# EAGLE library part AMC1304L05DW (library kicker)
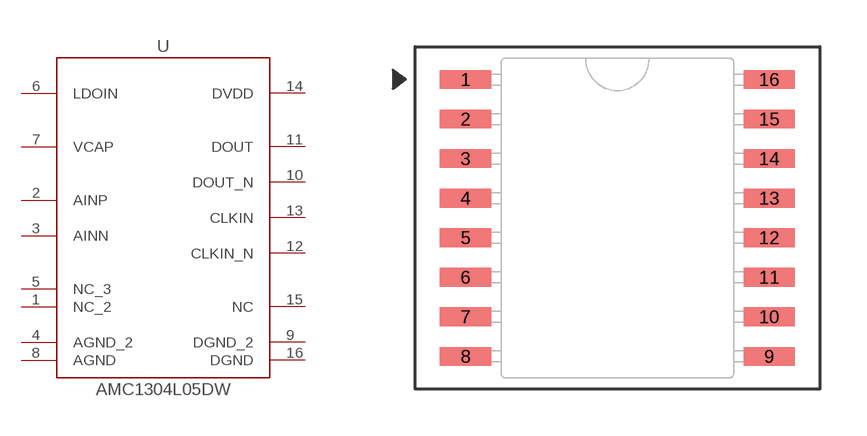
[diagram p1: symbol with the pads of DW0016B_HV; footprint DW0016B_HV]

Designator prefix U

## AMC1304L05DWDW0016B_HV (MF: Texas Instruments; MPN: AMC1304L05DW)  [DW0016B_HV]
1  NC_2  pas
2  AINP  in
3  AINN  in
4  AGND_2  pwr
5  NC_3  pas
6  LDOIN  pwr
7  VCAP  pwr
8  AGND  pwr
9  DGND_2  pwr
10  DOUT_N  out
11  DOUT  out
12  CLKIN_N  in
13  CLKIN  in
14  DVDD  pwr
15  NC  pas
16  DGND  pwr

## Footprint DW0016B_HV (pad centres in mm)
smd 1.65 x 0.6: 1 -4.875,4.445; 2 -4.875,3.175; 3 -4.875,1.905; 4 -4.875,0.635; 5 -4.875,-0.635; 6 -4.875,-1.905; 7 -4.875,-3.175; 8 -4.875,-4.445; 9 4.875,-4.445; 10 4.875,-3.175; 11 4.875,-1.905; 12 4.875,-0.635; 13 4.875,0.635; 14 4.875,1.905; 15 4.875,3.175; 16 4.875,4.445